# EAGLE library part CARAMBOLA2 (library OMAT_IC)
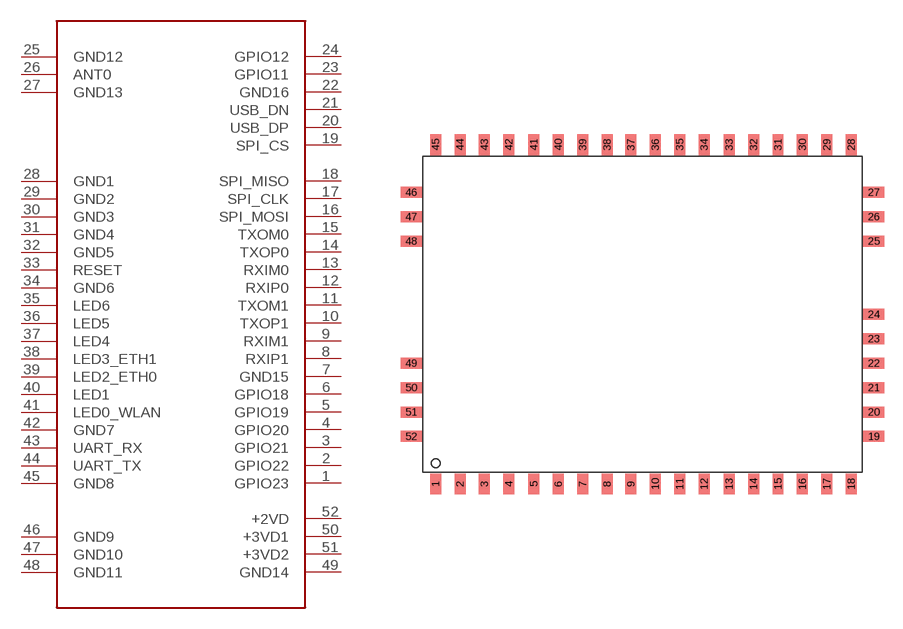
[diagram p2: symbol with the pads of CARAMBOLA1; footprint CARAMBOLA1]

Designator prefix -

## CARAMBOLA2  [CARAMBOLA1]
1  GPIO23
2  GPIO22
3  GPIO21
4  GPIO20
5  GPIO19
6  GPIO18
7  GND15
8  RXIP1
9  RXIM1
10  TXOP1
11  TXOM1
12  RXIP0
13  RXIM0
14  TXOP0
15  TXOM0
16  SPI_MOSI
17  SPI_CLK
18  SPI_MISO
19  SPI_CS
20  USB_DP
21  USB_DN
22  GND16
23  GPIO11
24  GPIO12
25  GND12
26  ANT0
27  GND13
28  GND1
29  GND2
30  GND3
31  GND4
32  GND5
33  RESET
34  GND6
35  LED6
36  LED5
37  LED4
38  LED3_ETH1
39  LED2_ETH0
40  LED1
41  LED0_WLAN
42  GND7
43  UART_RX
44  UART_TX
45  GND8
46  GND9
47  GND10
48  GND11
49  GND14
50  +3VD1
51  +3VD2
52  +2VD

## Footprint CARAMBOLA1 (pad centres in mm)
smd 0.9 x 1.7: 1 2,-23.9; 2 4,-23.9; 3 6,-23.9; 4 8,-23.9; 5 10.05,-23.9; 6 12.05,-23.9; 7 14.05,-23.9; 8 16.05,-23.9; 9 18,-23.9; 10 20,-23.9; 11 22,-23.9; 12 24,-23.9; 13 26.05,-23.9; 14 28.05,-23.9; 15 30.05,-23.9; 16 32.05,-23.9; 17 34.05,-23.9; 18 36.05,-23.9; 28 36.05,3.9; 29 34.05,3.9; 30 32.05,3.9; 31 30.05,3.9; 32 28.05,3.9; 33 26.05,3.9; 34 24,3.9; 35 22,3.9; 36 20,3.9; 37 18,3.9; 38 16.05,3.9; 39 14.05,3.9; 40 12.05,3.9; 41 10.05,3.9; 42 8,3.9; 43 6,3.9; 44 4,3.9; 45 2,3.9
smd 1.7 x 0.9: 19 37.9,-20; 20 37.9,-18; 21 37.9,-16; 22 37.9,-14; 23 37.9,-12; 24 37.9,-10; 25 37.9,-4; 26 37.9,-2; 27 37.9,0; 46 0,0; 47 0,-2; 48 0,-4; 49 0,-14; 50 0,-16; 51 0,-18; 52 0,-20